# Altium schematic symbol library cSLIM-SA.SchLib: 53 symbols
Pins are listed as number, name and electrical type; pins without a type are passive.

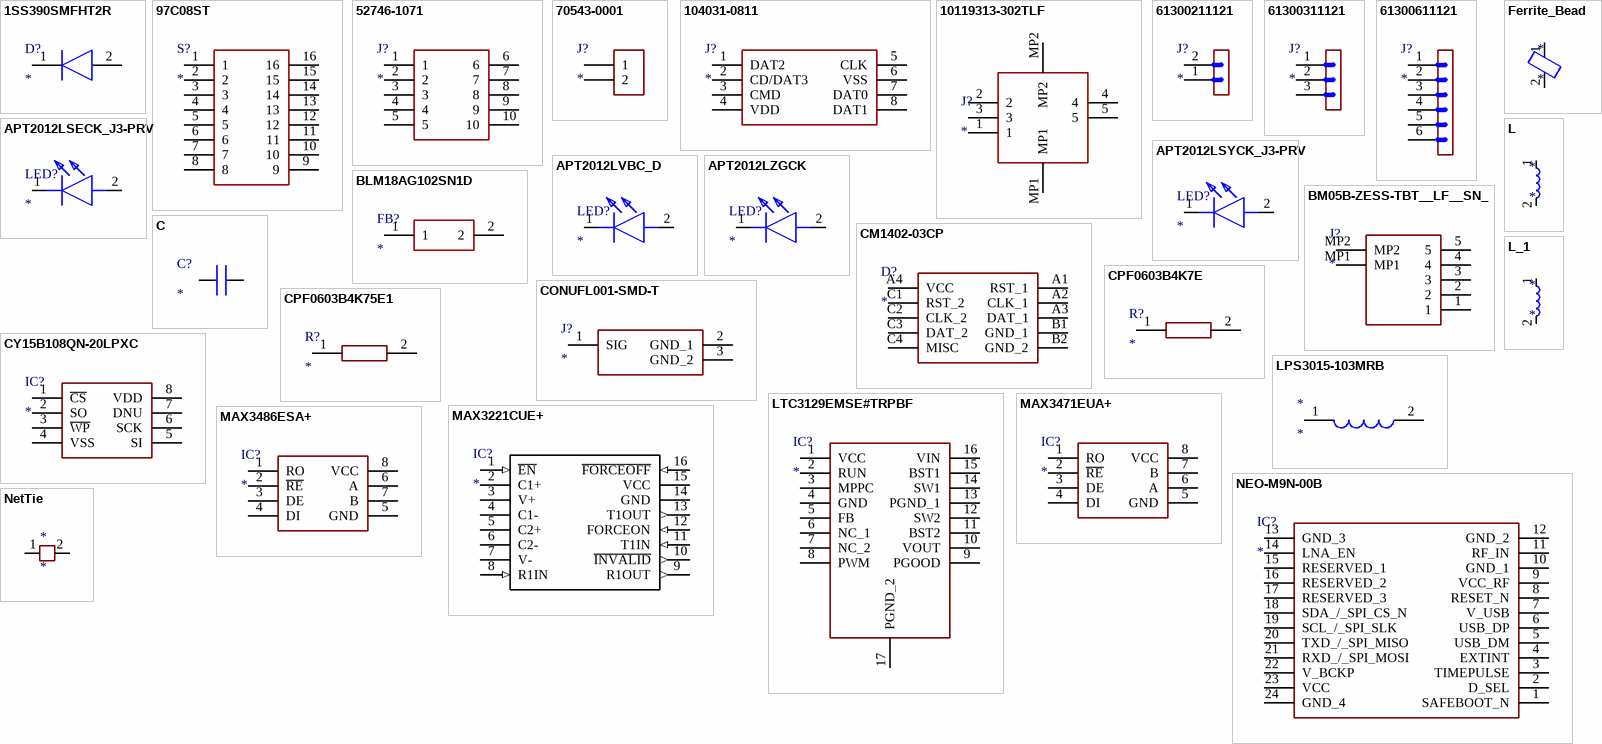
[diagram p0: symbols 1SS390SMFHT2R to NetTie]

## 1SS390SMFHT2R
designator D?
Diode; Manufacturer_Name: ROHM Semiconductor; Manufacturer_Part_Number: 1SS390SMFHT2R; Datasheet Link: https://componentsearchengine.com/Datasheets/2/1SS390SMFHT2R.pdf; Height: 0.7mm; Mouser Part Number: 755-1SS390SMFHT2R; Mouser Price/Stock: https://www.mouser.co.uk/ProductDetail/ROHM-Semiconductor/1SS390SMFHT2R?qs=0lSvoLzn4L%2FO2HkvK5CJsQ%3D%3D
footprint SODFL1608X70N
pins: 1 K, 2 A

## 97C08ST
designator S?
Switch; Manufacturer_Name: Grayhill; Manufacturer_Part_Number: 97C08ST; Datasheet Link: http://www.grayhill.com/search/?Keywords=97C08ST; Height: 1.7mm; Mouser Part Number: 706-97C08ST; Mouser Price/Stock: https://www.mouser.co.uk/ProductDetail/Grayhill/97C08ST?qs=ls7QRyWmRk6QAl4Hs3wGtw%3D%3D; Arrow Part Number: 97C08ST; Arrow Price/Stock: https://www.arrow.com/en/products/97c08st/grayhill
footprint SOIC127P671X170-16N
pins: 1, 2, 3, 4, 5, 6, 7, 8, 9, 10, 11, 12, 13, 14, 15, 16

## 52746-1071
designator J?
Connector; Manufacturer_Name: Molex; Manufacturer_Part_Number: 52746-1071; Datasheet Link: http://www.molex.com/pdm_docs/sd/527461071_sd.pdf; Mouser Part Number: 538-52746-1071; Mouser Price/Stock: https://www.mouser.co.uk/ProductDetail/Molex/52746-1071?qs=gi08C7HaimYPHJccIEZoxg%3D%3D
footprint 52746-1071
pins: 1, 2, 3, 4, 5, 6, 7, 8, 9, 10

## 70543-0001
designator J?
Connector; Manufacturer_Name: Molex; Manufacturer_Part_Number: 70543-0001; Datasheet Link: http://www.molex.com/pdm_docs/sd/705430001_sd.pdf; Height: 11.81mm; Mouser Part Number: 538-70543-0001; Mouser Price/Stock: https://www.mouser.co.uk/ProductDetail/Molex/70543-0001?qs=tYx%252BZc2nXqpCsE0XoulATg%3D%3D
footprint SHDR2W64P0X254_1X2_737X660X1181P
pins: 1, 2

## 104031-0811
designator J?
Connector; Manufacturer_Name: Molex; Manufacturer_Part_Number: 104031-0811; Datasheet Link: http://www.molex.com/webdocs/datasheets/pdf/en-us/1040310811_MEMORY_CARD_SOCKET.pdf; Mouser Part Number: 538-104031-0811; Mouser Price/Stock: https://www.mouser.co.uk/ProductDetail/Molex/104031-0811?qs=udsGRKD4nA3Tvy7wqky%252BuA%3D%3D
footprint 1040310811
pins: 1 DAT2, 2 CD/DAT3, 3 CMD, 4 VDD, 5 CLK, 6 VSS, 7 DAT0, 8 DAT1

## 10119313-302TLF
designator J?
Connector; Manufacturer_Name: Amphenol; Manufacturer_Part_Number: 10119313-302TLF; Datasheet Link: https://www.arrow.com/en/products/10119313-302tlf/amphenol-fci; Height: 9.55mm; Mouser Part Number: 649-10119313-302TLF; Mouser Price/Stock: https://www.mouser.co.uk/ProductDetail/Amphenol-FCI/10119313-302TLF?qs=QcFhgjUTvvpTzLjwlVEXAA%3D%3D; Arrow Part Number: 10119313-302TLF; Arrow Price/Stock: https://www.arrow.com/en/products/10119313-302tlf/amphenol-fci
footprint 10119313302TLF
pins: 1, 2, 3, 4, 5, MP1, MP2

## 61300211121
designator J?
Connector; Manufacturer_Name: Wurth Elektronik; Manufacturer_Part_Number: 61300211121; Datasheet Link: https://componentsearchengine.com/Datasheets/2/61300211121.pdf; Height: 8.54mm; Mouser Part Number: 710-61300211121; Mouser Price/Stock: https://www.mouser.co.uk/ProductDetail/Wurth-Elektronik/61300211121?qs=t4813l51qx%252B1A5GYDQxPlw%3D%3D
footprint HDRV2W110P0X254_1X2_508X254X854P
pins: 1, 2

## 61300311121
designator J?
Connector; Manufacturer_Name: Wurth Elektronik; Manufacturer_Part_Number: 61300311121; Datasheet Link: http://katalog.we-online.de/em/datasheet/6130xx11121.pdf; Height: 8.69mm; Mouser Part Number: 710-61300311121; Mouser Price/Stock: https://www.mouser.co.uk/ProductDetail/Wurth-Elektronik/61300311121?qs=PhR8RmCirEYxRWFJzNKsUw%3D%3D
footprint HDRV3W64P0X254_1X3_762X254X869P
pins: 1, 2, 3

## 61300611121
designator J?
Connector; Manufacturer_Name: Wurth Elektronik; Manufacturer_Part_Number: 61300611121; Datasheet Link: https://componentsearchengine.com/Datasheets/2/61300611121.pdf; Height: 8.69mm; Mouser Part Number: 710-61300611121; Mouser Price/Stock: https://www.mouser.co.uk/ProductDetail/Wurth-Elektronik/61300611121?qs=t4813l51qx%2FRpdf0Kp1HlQ%3D%3D
footprint HDRV6W64P0X254_1X6_1524X254X869P
pins: 1, 2, 3, 4, 5, 6

## APT2012LSECK_J3-PRV
designator LED?
LED; Manufacturer_Name: Kingbright; Manufacturer_Part_Number: APT2012LSECK/J3-PRV; Datasheet Link: http://www.kingbrightusa.com/images/catalog/SPEC/APT2012LSECK-J3-PRV.pdf; Height: 0.75mm; Mouser Part Number: 604-APT2012LSECKJ3RV; Mouser Price/Stock: https://www.mouser.co.uk/ProductDetail/Kingbright/APT2012LSECK-J3-PRV?qs=6oMev5NRZMEkGJkKIsAalQ%3D%3D; Arrow Part Number: APT2012LSECK/J3-PRV; Arrow Price/Stock: https://www.arrow.com/en/products/apt2012lseckj3-prv/kingbright
footprint LEDC2012X75N
pins: 1 K, 2 A

## APT2012LSYCK_J3-PRV
designator LED?
LED; Manufacturer_Name: Kingbright; Manufacturer_Part_Number: APT2012LSYCK/J3-PRV; Datasheet Link: http://www.kingbrightusa.com/images/catalog/SPEC/APT2012LSYCK-J3-PRV.pdf; Height: 0.85mm; Mouser Part Number: 604-APT2012LSYCKJ3RV; Mouser Price/Stock: https://www.mouser.co.uk/ProductDetail/Kingbright/APT2012LSYCK-J3-PRV?qs=6oMev5NRZMGoWLCc4feqUg%3D%3D; Arrow Part Number: APT2012LSYCK/J3-PRV; Arrow Price/Stock: https://www.arrow.com/en/products/apt2012lsyckj3-prv/kingbright
footprint LEDC2012X85N
pins: 1 K, 2 A

## APT2012LVBC_D
designator LED?
LED; Manufacturer_Name: Kingbright; Manufacturer_Part_Number: APT2012LVBC/D; Datasheet Link: https://componentsearchengine.com/Datasheets/1/APT2012LVBC_D.pdf; Height: 0.85mm; Mouser Part Number: 604-APT2012LVBCD; Mouser Price/Stock: https://www.mouser.co.uk/ProductDetail/Kingbright/APT2012LVBC-D?qs=6oMev5NRZMGErJYT6KZLXg%3D%3D; Arrow Part Number: APT2012LVBC/D; Arrow Price/Stock: https://www.arrow.com/en/products/apt2012lvbcd/kingbright
footprint LEDC2012X85N
pins: 1 K, 2 A

## APT2012LZGCK
designator LED?
LED; Manufacturer_Name: Kingbright; Manufacturer_Part_Number: APT2012LZGCK; Datasheet Link: http://www.kingbrightusa.com/images/catalog/SPEC/APT2012LZGCK.pdf; Height: 0.85mm; Mouser Part Number: 604-APT2012LZGCK; Mouser Price/Stock: https://www.mouser.co.uk/ProductDetail/Kingbright/APT2012LZGCK?qs=6oMev5NRZMHOosFiXb%2F3qw%3D%3D; Arrow Part Number: APT2012LZGCK; Arrow Price/Stock: https://www.arrow.com/en/products/apt2012lzgck/kingbright
footprint LEDC2012X85N
pins: 1 K, 2 A

## BLM18AG102SN1D
designator FB?
Ferrite Bead; Manufacturer_Name: Murata Electronics; Manufacturer_Part_Number: BLM18AG102SN1D; Datasheet Link: http://www.murata.com/~/media/webrenewal/support/library/catalog/products/emc/emifil/c31e.ashx?la=en-gb; Height: 0.95mm; Mouser Part Number: 81-BLM11A102S; Mouser Price/Stock: https://www.mouser.co.uk/ProductDetail/Murata-Electronics/BLM18AG102SN1D?qs=b2kFoOhrN4V4XjRBmusv4w%3D%3D; Arrow Part Number: BLM18AG102SN1D; Arrow Price/Stock: https://www.arrow.com/en/products/blm18ag102sn1d/murata-manufacturing?region=nac
footprint BLM18EG121SH1D
pins: 1, 2

## BM05B-ZESS-TBT__LF__SN_
designator J?
Connector; Manufacturer_Name: JST (JAPAN SOLDERLESS TERMINALS); Manufacturer_Part_Number: BM05B-ZESS-TBT (LF)(SN); Datasheet Link: https://www.arrow.com/en/products/bm05b-zess-tbt-lf-sn/jst-manufacturing; Height: 7.5mm; Arrow Part Number: BM05B-ZESS-TBT (LF)(SN); Arrow Price/Stock: https://www.arrow.com/en/products/bm05b-zess-tbt-lf-sn/jst-manufacturing
footprint BM05BZESSTBTLFSN
pins: 1, 2, 3, 4, 5, MP1, MP2

## C
designator C?
Capacitor; Manufacturer_Name: AVX; Manufacturer_Part_Number: 06033G104ZAT2A; Datasheet Link: http://www.mouser.com/catalog/supplier/library/pdf/AVXSurfaceMountCeramic.pdf; Height: 0.9mm; Mouser Part Number: 581-06033G104Z; Mouser Price/Stock: https://www.mouser.co.uk/ProductDetail/AVX/06033G104ZAT2A?qs=NXubJDmysXJMPmHfVo6Z%252BA%3D%3D; Arrow Part Number: 06033G104ZAT2A; Arrow Price/Stock: https://www.arrow.com/en/products/06033g104zat2a/avx?region=nac
footprint CAPC1608X90N
pins: 1, 2

## CM1402-03CP
designator D?
Diode ESD (Uni-directional); Manufacturer_Name: ON Semiconductor; Manufacturer_Part_Number: CM1402-03CP; Datasheet Link: https://www.onsemi.com/pub/Collateral/CM1402-D.PDF; Height: 0.72mm; Mouser Part Number: 748-CM1402-03CP; Mouser Price/Stock: https://www.mouser.co.uk/ProductDetail/onsemi/CM1402-03CP?qs=lLuKAerq7nnG203YjtyI%252BA%3D%3D; Arrow Part Number: CM1402-03CP; Arrow Price/Stock: https://www.arrow.com/en/products/cm1402-03cp/on-semiconductor
footprint CM140203CP
pins: A1 RST_1, A2 CLK_1, A3 DAT_1, A4 VCC, B1 GND_1, B2 GND_2, C1 RST_2, C2 CLK_2, C3 DAT_2, C4 MISC

## CONUFL001-SMD-T
designator J?
Connector; Manufacturer_Name: Linx Technologies; Manufacturer_Part_Number: CONUFL001-SMD-T; Datasheet Link: https://linxtechnologies.com/wp/product/mhf-rf-connectors/; Mouser Part Number: 712-CONUFL001-SMD-T; Mouser Price/Stock: https://www.mouser.co.uk/ProductDetail/Linx-Technologies/CONUFL001-SMD-T?qs=EU6FO9ffTwfRdkBeQTdJWQ%3D%3D
footprint CONUFL001-SMD
pins: 1 SIG, 2 GND_1, 3 GND_2

## CPF0603B4K7E
designator R?
Resistor; Manufacturer_Name: TE Connectivity; Manufacturer_Part_Number: CPF0603B4K7E; Datasheet Link: http://www.farnell.com/datasheets/1786775.pdf; Height: 0.55mm; Mouser Part Number: 279-CPF0603B4K7E; Mouser Price/Stock: https://www.mouser.com/Search/Refine.aspx?Keyword=279-CPF0603B4K7E; Arrow Part Number: CPF0603B4K7E; Arrow Price/Stock: https://www.arrow.com/en/products/cpf0603b4k7e/te-connectivity
footprint RESC1608X55N
pins: 1, 2

## CPF0603B4K75E1
designator R?
Resistor; Manufacturer_Name: TE Connectivity; Manufacturer_Part_Number: CPF0603B4K75E1; Datasheet Link: http://www.farnell.com/datasheets/1786775.pdf; Height: 0.55mm
footprint RESC1608X55N
pins: 1, 2

## CY15B108QN-20LPXC
designator IC?
Integrated Circuit; Manufacturer_Name: Cypress Semiconductor; Manufacturer_Part_Number: CY15B108QN-20LPXC; Datasheet Link: https://www.arrow.com/en/products/cy15b108qn-20lpxc/cypress-semiconductor; Height: 0.55mm; Mouser Part Number: 727-CY15B108QN20LPXC; Mouser Price/Stock: https://www.mouser.co.uk/ProductDetail/Cypress-Semiconductor/CY15B108QN-20LPXC?qs=P1JMDcb91o5srFPNWUxrEA%3D%3D; Arrow Part Number: CY15B108QN-20LPXC; Arrow Price/Stock: https://www.arrow.com/en/products/cy15b108qn-20lpxc/cypress-semiconductor?region=nac
footprint SON65P323X328X55-8N
pins: 1 ~{CS}, 2 SO, 3 ~{WP}, 4 VSS, 5 SI, 6 SCK, 7 DNU, 8 VDD

## Ferrite_Bead
designator *
footprint CAPC1608X90N
pins: 1, 2

## L
designator *
footprint L-1608
pins: 1, 2

## L_1
designator *
footprint LQW18AS10NG0CD
pins: 1, 2

## LPS3015-103MRB
designator *
footprint LPS3015
pins: 1, 2

## LTC3129EMSE#TRPBF
designator IC?
Integrated Circuit; Manufacturer_Name: Linear Technology; Manufacturer_Part_Number: LTC3129EMSE#TRPBF; Datasheet Link: https://www.analog.com/media/en/technical-documentation/data-sheets/3129fc.pdf; Height: 1.1mm; Mouser Part Number: 584-LTC3129EMSETRPBF; Mouser Price/Stock: https://www.mouser.com/Search/Refine.aspx?Keyword=584-LTC3129EMSETRPBF
footprint SOP50P490X110-17N
pins: 1 VCC, 2 RUN, 3 MPPC, 4 GND, 5 FB, 6 NC_1, 7 NC_2, 8 PWM, 9 PGOOD, 10 VOUT, 11 BST2, 12 SW2, 13 PGND_1, 14 SW1, 15 BST1, 16 VIN, 17 PGND_2

## MAX3221CUE+
designator IC?
Integrated Circuit; Manufacturer_Name: Maxim Integrated; Manufacturer_Part_Number: MAX3221CUE+; Datasheet Link: http://datasheets.maximintegrated.com/en/ds/MAX3221-MAX3243.pdf; Height: 1.1mm; Mouser Part Number: 700-MAX3221CUE; Mouser Price/Stock: https://www.mouser.co.uk/ProductDetail/Maxim-Integrated/MAX3221CUE%2b?qs=1THa7WoU59EZwCeWs5OtSQ%3D%3D
footprint SOP65P640X110-16N
pins: 1 ~{EN} (in), 2 C1+, 3 V+ (power), 4 C1-, 5 C2+, 6 C2-, 7 V- (power), 8 R1IN (in), 9 R1OUT (out), 10 ~{INVALID} (out), 11 T1IN (in), 12 FORCEON (in), 13 T1OUT (out), 14 GND (power), 15 VCC (power), 16 ~{FORCEOFF} (in)

## MAX3471EUA+
designator IC?
Integrated Circuit; Manufacturer_Name: Maxim Integrated; Manufacturer_Part_Number: MAX3471EUA+; Datasheet Link: http://docs-emea.rs-online.com/webdocs/0f71/0900766b80f719c9.pdf; Height: 1.1mm; Mouser Part Number: 700-MAX3471EUA; Mouser Price/Stock: https://www.mouser.co.uk/ProductDetail/Maxim-Integrated/MAX3471EUA%2b?qs=1THa7WoU59GPWTW%252BBV1kJA%3D%3D
footprint SOP65P490X110-8N
pins: 1 RO, 2 ~{RE}, 3 DE, 4 DI, 5 GND, 6 A, 7 B, 8 VCC

## MAX3486ESA+
designator IC?
Integrated Circuit; Manufacturer_Name: Maxim Integrated; Manufacturer_Part_Number: MAX3486ESA+; Datasheet Link: http://datasheets.maximintegrated.com/en/ds/MAX3483-MAX3491.pdf; Height: 1.75mm; Mouser Part Number: 700-MAX3486ESA; Mouser Price/Stock: https://www.mouser.co.uk/ProductDetail/Maxim-Integrated/MAX3486ESA%2b?qs=1THa7WoU59FIrgcgBLF9fg%3D%3D
footprint SOIC127P600X175-8N
pins: 1 RO, 2 ~{RE}, 3 DE, 4 DI, 5 GND, 6 A, 7 B, 8 VCC

## NEO-M9N-00B
designator IC?
Integrated Circuit; Manufacturer_Name: U-Blox; Manufacturer_Part_Number: NEO-M9N-00B; Datasheet Link: https://www.u-blox.com/sites/default/files/NEO-M9N_DataSheet_%28UBX-19014285%29.pdf; Height: 2.6mm; Mouser Part Number: 377-NEO-M9N-00B; Mouser Price/Stock: https://www.mouser.co.uk/ProductDetail/u-blox/NEO-M9N-00B?qs=DPoM0jnrROVeJ6BHpcwcjw%3D%3D
footprint NEOM9N00B (NEO M9N GNSS)
pins: 1 SAFEBOOT_N, 2 D_SEL, 3 TIMEPULSE, 4 EXTINT, 5 USB_DM, 6 USB_DP, 7 V_USB, 8 RESET_N, 9 VCC_RF, 10 GND_1, 11 RF_IN, 12 GND_2, 13 GND_3, 14 LNA_EN, 15 RESERVED_1, 16 RESERVED_2, 17 RESERVED_3, 18 SDA_/_SPI_CS_N, 19 SCL_/_SPI_SLK, 20 TXD_/_SPI_MISO, 21 RXD_/_SPI_MOSI, 22 V_BCKP, 23 VCC, 24 GND_4

## NetTie
designator *
footprint NETTIE_FP
pins: 1, 2

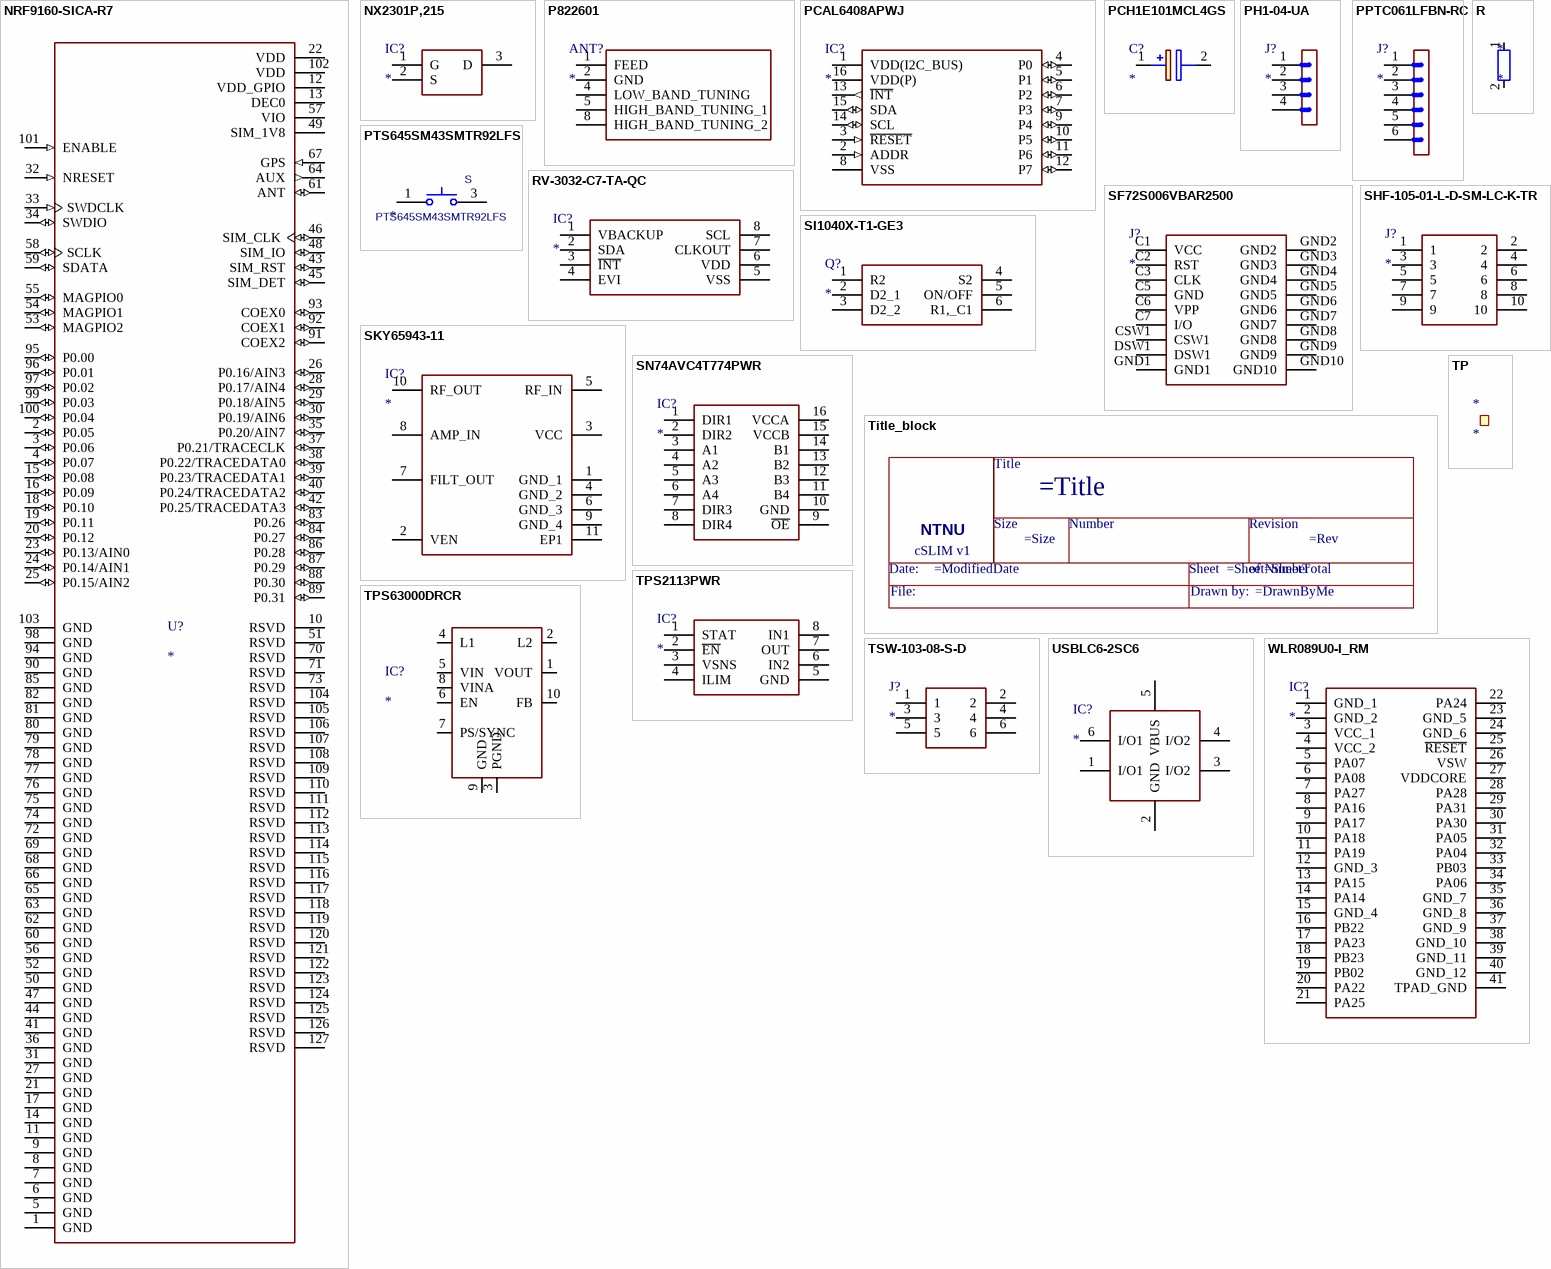
[diagram p1: symbols NRF9160-SICA-R7 to WLR089U0-I_RM]

## NRF9160-SICA-R7
designator U?
IC RF TxRx + MCU Cellular GPS 700MHz ~ 2.2GHz 161-TFLGA Module; MF: Nordic Semiconductor ASA; MP: NRF9160-SICA-R7; Purchase-URL: https://pricing.snapeda.com/search/part/NRF9160-SICA-R7/?ref=eda; Availability: Good; Price: None; Package: Module Nordic Semiconductor ASA; Value: *; SnapEDA_Link: https://www.snapeda.com/parts/NRF9160-SICA-R7/Nordic%20Semiconductor%20ASA/view-part/3660917/?ref=snap
footprint XCVR_NRF9160-SICA-R7
pins: 1 GND (power), 2 P0.05 (io), 3 P0.06 (io), 4 P0.07 (io), 5 GND (power), 6 GND, 7 GND, 8 GND, 9 GND (power), 10 RSVD, 11 GND, 12 VDD_GPIO (power), 13 DEC0 (power), 14 GND (power), 15 P0.08 (io), 16 P0.09 (io), 17 GND (power), 18 P0.10 (io), 19 P0.11 (io), 20 P0.12 (io), 21 GND (power), 22 VDD (power), 23 P0.13/AIN0 (io), 24 P0.14/AIN1 (io), 25 P0.15/AIN2 (io), 26 P0.16/AIN3 (io), 27 GND (power), 28 P0.17/AIN4 (io), 29 P0.18/AIN5 (io), 30 P0.19/AIN6 (io), 31 GND (power), 32 NRESET (in), 33 SWDCLK (in), 34 SWDIO (io), 35 P0.20/AIN7 (io), 36 GND (power), 37 P0.21/TRACECLK (io), 38 P0.22/TRACEDATA0 (io), 39 P0.23/TRACEDATA1 (io), 40 P0.24/TRACEDATA2 (io), 41 GND (power), 42 P0.25/TRACEDATA3 (io), 43 SIM_RST (io), 44 GND (power), 45 SIM_DET (io), 46 SIM_CLK (io), 47 GND (power), 48 SIM_IO (io), 49 SIM_1V8 (power), 50 GND (power), 51 RSVD, 52 GND (power), 53 MAGPIO2 (io), 54 MAGPIO1 (io), 55 MAGPIO0 (io), 56 GND (power), 57 VIO (power), 58 SCLK (io), 59 SDATA (io), 60 GND (power), 61 ANT (io), 62 GND (power), 63 GND (power), 64 AUX (out), 65 GND (power), 66 GND (power), 67 GPS (in), 68 GND, 69 GND, 70 RSVD, 71 RSVD, 72 GND (power), 73 RSVD, 74 GND (power), 75 GND (power), 76 GND (power), 77 GND (power), 78 GND (power), 79 GND (power), 80 GND (power), 81 GND (power), 82 GND (power), 83 P0.26 (io), 84 P0.27 (io), 85 GND (power), 86 P0.28 (io), 87 P0.29 (io), 88 P0.30 (io), 89 P0.31 (io), 90 GND (power), 91 COEX2 (io), 92 COEX1 (io), 93 COEX0 (io), 94 GND (power), 95 P0.00 (io), 96 P0.01 (io), 97 P0.02 (io), 98 GND (power), 99 P0.03 (io), 100 P0.04 (io), 101 ENABLE (in), 102 VDD (power), 103 GND (power), 104 RSVD, 105 RSVD, 106 RSVD, 107 RSVD, 108 RSVD, 109 RSVD, 110 RSVD, 111 RSVD, 112 RSVD, 113 RSVD, 114 RSVD, 115 RSVD, 116 RSVD, 117 RSVD, 118 RSVD, 119 RSVD, 120 RSVD, 121 RSVD, 122 RSVD, 123 RSVD, 124 RSVD, 125 RSVD, 126 RSVD, 127 RSVD

## NX2301P,215
designator IC?
Integrated Circuit; Manufacturer_Name: Nexperia; Manufacturer_Part_Number: NX2301P,215; Datasheet Link: http://www.nxp.com/documents/data_sheet/NX2301P.pdf; Height: 1.1mm; Mouser Part Number: 771-NX2301P215; Mouser Price/Stock: https://www.mouser.co.uk/ProductDetail/Nexperia/NX2301P215?qs=A1cBxND5mHKs%252BLrxCDENxw%3D%3D; Arrow Part Number: NX2301P,215; Arrow Price/Stock: https://www.arrow.com/en/products/nx2301p215/nexperia
footprint SOT95P230X110-3N
pins: 1 G, 2 S, 3 D

## P822601
designator ANT?
Antenna; Manufacturer_Name: AVX; Manufacturer_Part_Number: P822601; Datasheet Link: http://datasheets.avx.com/ethertronics/AVX-E_P822601-P822602.pdf; Height: 3.5mm; Mouser Part Number: 581-P822601; Mouser Price/Stock: https://www.mouser.co.uk/ProductDetail/AVX/P822601?qs=vdi0iO8H4N0igrTLYxGIXg%3D%3D; Arrow Part Number: P822601; Arrow Price/Stock: https://www.arrow.com/en/products/p822601/avx?region=nac
footprint P822601
pins: 1 FEED, 2 GND, 4 LOW_BAND_TUNING, 5 HIGH_BAND_TUNING_1, 8 HIGH_BAND_TUNING_2

## PCAL6408APWJ
designator IC?
Integrated Circuit; Manufacturer_Name: NXP; Manufacturer_Part_Number: PCAL6408APWJ; Datasheet Link: http://www.nxp.com/docs/en/data-sheet/PCAL6408A.pdf; Height: 1.1mm; Mouser Part Number: 771-PCAL6408APWJ; Mouser Price/Stock: https://www.mouser.co.uk/ProductDetail/NXP-Semiconductors/PCAL6408APWJ?qs=1sbE9T7hb3ayrs2xEWMTlg%3D%3D; Arrow Part Number: PCAL6408APWJ; Arrow Price/Stock: https://www.arrow.com/en/products/pcal6408apwj/nxp-semiconductors
footprint SOP65P640X110-16N
pins: 1 VDD(I2C_BUS) (power), 2 ADDR (in), 3 ~{RESET} (in), 4 P0 (io), 5 P1 (io), 6 P2 (io), 7 P3 (io), 8 VSS (power), 9 P4 (io), 10 P5 (io), 11 P6 (io), 12 P7 (io), 13 ~{INT} (out), 14 SCL (io), 15 SDA (io), 16 VDD(P) (power)

## PCH1E101MCL4GS
designator C?
Capacitor Polarised; Manufacturer_Name: Nichicon; Manufacturer_Part_Number: PCH1E101MCL4GS; Datasheet Link: https://componentsearchengine.com/Datasheets/2/PCH1E101MCL4GS.pdf; Height: 8.4mm; Mouser Part Number: 647-PCH1E101MCL4GS; Mouser Price/Stock: https://www.mouser.co.uk/ProductDetail/Nichicon/PCH1E101MCL4GS?qs=vmHwEFxEFR%252Bar6ugXaASOA%3D%3D
footprint CAPAE660X840N
pins: 1 +, 2 -

## PH1-04-UA
designator J?
Connector; Manufacturer_Name: Adam Tech; Manufacturer_Part_Number: PH1-04-UA; Datasheet Link: https://datasheet.datasheetarchive.com/originals/distributors/Datasheets_SAMA/22522227e000bb8d8f26a3580c1bb98b.pdf; Height: 9.008mm; Arrow Part Number: PH1-04-UA; Arrow Price/Stock: https://www.arrow.com/en/products/ph1-04-ua/adam-tech
footprint HDRV4W64P0X254_1X4_1016X250X901P
pins: 1, 2, 3, 4

## PPTC061LFBN-RC
designator J?
Connector; Manufacturer_Name: Sullins; Manufacturer_Part_Number: PPTC061LFBN-RC; Datasheet Link: http://www.sullinscorp.com/drawings/78_P(N)PxCxxxLFBN-RC,_10492-H.pdf; Height: 8.7mm
footprint RHDR6W80P0X254_1X6_1574X254X870P
pins: 1, 2, 3, 4, 5, 6

## PTS645SM43SMTR92LFS
designator S  value PTS645SM43SMTR92LFS
Switch 4-pi. used 1-3 (2-4 not in use); Manufacturer_Name: C & K COMPONENTS; Manufacturer_Part_Number: TLS A 070J LFS; Description_: Tactile Switches Top actuated tact, 0.9 mm travel, 7 N, 50% Tactile, J Leads, SMT, 8.6 x 8.4 x 3.95 mm, Soft Actuator; Footprint: TLSA070JLFS; Supplier: https://www.mouser.ph/datasheet/2/60/tls-1846606.pdf; Mouser Part Number: 611-TLSA070JLFS; Mouser Price/Stock: https://www.mouser.co.uk/ProductDetail/CK/TLS-A-070J-LFS?qs=GedFDFLaBXEdAqJ422mDcw%3D%3D
footprint PTS645(SMT)
pins: 1, 3

## R
designator *
footprint RESC1608X55N
pins: 1, 2

## RV-3032-C7-TA-QC
designator IC?
Integrated Circuit; Manufacturer_Name: Micro Crystal AG; Manufacturer_Part_Number: RV-3032-C7-TA-QC; Datasheet Link: https://www.microcrystal.com/fileadmin/Media/Products/RTC/Datasheet/RV-3032-C7.pdf; Height: 0.8mm
footprint RV3032C7TAQA
pins: 1 VBACKUP, 2 SDA, 3 ~{INT}, 4 EVI, 5 VSS, 6 VDD, 7 CLKOUT, 8 SCL

## SF72S006VBAR2500
designator J?
Connector; Manufacturer_Name: JAE Electronics; Manufacturer_Part_Number: SF72S006VBAR2500; Datasheet Link: https://componentsearchengine.com/Datasheets/1/SF72S006VBAR2500.pdf; Height: 1.25mm; Mouser Part Number: 656-SF72S006VBAR2500; Mouser Price/Stock: https://www.mouser.co.uk/ProductDetail/JAE-Electronics/SF72S006VBAR2500?qs=zwT864VV%2FINpxlkc4yTPCw%3D%3D
footprint SF72S006VBAR2500
pins: C1 VCC, C2 RST, C3 CLK, C5 GND, C6 VPP, C7 I/O, CSW1, DSW1, GND1, GND2, GND3, GND4, GND5, GND6, GND7, GND8, GND9, GND10

## SHF-105-01-L-D-SM-LC-K-TR
designator J?
Connector; Manufacturer_Name: Samtech; Manufacturer_Part_Number: SHF-105-01-L-D-SM-LC-K-TR; Datasheet Link: https://suddendocs.samtec.com/prints/shf-1xx-01-x-d-xx-xx-xx-mkt.pdf; Height: 5.33mm
footprint SHF10501LDSMLCKTR
pins: 1, 2, 3, 4, 5, 6, 7, 8, 9, 10

## SI1040X-T1-GE3
designator Q?
MOSFET (N-Channel); Manufacturer_Name: Vishay; Manufacturer_Part_Number: SI1040X-T1-GE3; Datasheet Link: https://www.vishay.com/docs/71809/si1040x.pdf; Height: 0.6mm; Mouser Part Number: 781-SI1040X-T1-GE3; Mouser Price/Stock: https://www.mouser.co.uk/ProductDetail/Vishay-Semiconductors/SI1040X-T1-GE3?qs=tWM4QuTcS4WRJw%2FdSgdX6Q%3D%3D; Arrow Part Number: SI1040X-T1-GE3; Arrow Price/Stock: https://www.arrow.com/en/products/si1040x-t1-ge3/vishay
footprint SOTFL50P160X60-6N
pins: 1 R2, 2 D2_1, 3 D2_2, 4 S2, 5 ON/OFF, 6 R1,_C1

## SKY65943-11
designator IC?
Integrated Circuit; Manufacturer_Name: Skyworks; Manufacturer_Part_Number: SKY65943-11; Datasheet Link: https://datasheet.datasheetarchive.com/originals/distributors/DKDS41/DSANUWW0028396.pdf; Height: 0.7mm; Mouser Part Number: 873-SKY65943-11; Mouser Price/Stock: https://www.mouser.co.uk/ProductDetail/Skyworks-Solutions-Inc/SKY65943-11?qs=w%2Fv1CP2dgqpnHmrnB1Mkow%3D%3D
footprint SKY6594311
pins: 1 GND_1, 2 VEN, 3 VCC, 4 GND_2, 5 RF_IN, 6 GND_3, 7 FILT_OUT, 8 AMP_IN, 9 GND_4, 10 RF_OUT, 11 EP1

## SN74AVC4T774PWR
designator IC?
Integrated Circuit; Manufacturer_Name: Texas Instruments; Manufacturer_Part_Number: SN74AVC4T774PWR; Datasheet Link: http://www.ti.com/lit/gpn/sn74avc4t774; Height: 1.2mm; Mouser Part Number: 595-SN74AVC4T774PWR; Mouser Price/Stock: https://www.mouser.co.uk/ProductDetail/Texas-Instruments/SN74AVC4T774PWR?qs=WxL8HmPi5r562Eu%2F2kE2LA%3D%3D; Arrow Part Number: SN74AVC4T774PWR; Arrow Price/Stock: https://www.arrow.com/en/products/sn74avc4t774pwr/texas-instruments?region=nac
footprint SOP65P640X120-16N
pins: 1 DIR1, 2 DIR2, 3 A1, 4 A2, 5 A3, 6 A4, 7 DIR3, 8 DIR4, 9 ~{OE}, 10 GND, 11 B4, 12 B3, 13 B2, 14 B1, 15 VCCB, 16 VCCA

## Title_block
designator =DocumentName  (value not drawn)  (no BOM)
text: Title; Size; Number; Revision; NTNU; cSLIM v1; Date:; Sheet; of; File:; Drawn by:

## TP
designator *
footprint TP_SMD_Ø1.0mm (TestPad Ø1mm)
pins: 1

## TPS2113PWR
designator IC?
Integrated Circuit; Manufacturer_Name: Texas Instruments; Manufacturer_Part_Number: TPS2113PWR; Datasheet Link: http://www.ti.com/lit/ds/symlink/tps2113.pdf; Height: 1.2mm; Mouser Part Number: 595-TPS2113PWR; Mouser Price/Stock: https://www.mouser.co.uk/ProductDetail/Texas-Instruments/TPS2113PWR?qs=ojKcPFmCWSUJzuMPtPVtlA%3D%3D; Arrow Part Number: TPS2113PWR; Arrow Price/Stock: https://www.arrow.com/en/products/tps2113pwr/texas-instruments
footprint SOP65P640X120-8N
pins: 1 STAT, 2 ~{EN}, 3 VSNS, 4 ILIM, 5 GND, 6 IN2, 7 OUT, 8 IN1

## TPS63000DRCR
designator IC?
Integrated Circuit; Manufacturer_Name: Texas Instruments; Manufacturer_Part_Number: TPS63000DRCR; Datasheet Link: https://www.ti.com/lit/ds/symlink/tps63000.pdf?HQS=ti-null-null-sf-df-pf-sep-wwe&ts=1593405994673; Height: 1mm; Mouser Part Number: 595-TPS63000DRCR; Mouser Price/Stock: https://www.mouser.co.uk/ProductDetail/Texas-Instruments/TPS63000DRCR?qs=QZuYiDxzHaj%2FxB6t44u%252B6Q%3D%3D; Arrow Part Number: TPS63000DRCR; Arrow Price/Stock: https://www.arrow.com/en/products/tps63000drcr/texas-instruments?region=nac
footprint TPS63002DRCR
pins: 1 VOUT, 2 L2, 3 PGND, 4 L1, 5 VIN, 6 EN, 7 PS/SYNC, 8 VINA, 9 GND, 10 FB

## TSW-103-08-S-D
designator J?
Connector; Manufacturer_Name: SAMTEC; Manufacturer_Part_Number: TSW-103-08-S-D; Datasheet Link: http://suddendocs.samtec.com/catalog_english/tsw_th.pdf; Height: 8.38mm; Mouser Part Number: 200-TSW10308SD; Mouser Price/Stock: https://www.mouser.co.uk/ProductDetail/Samtec/TSW-103-08-S-D?qs=rU5fayqh%252BE0V5%2FEE8QdeZQ%3D%3D; Arrow Part Number: TSW-103-08-S-D; Arrow Price/Stock: https://www.arrow.com/en/products/tsw-103-08-s-d/samtec
footprint HDRV6W64P254_2X3_762X495X838P
pins: 1, 2, 3, 4, 5, 6

## USBLC6-2SC6
designator IC?
Integrated Circuit; Manufacturer_Name: STMicroelectronics; Manufacturer_Part_Number: USBLC6-2SC6; Datasheet Link: http://www.st.com/st-web-ui/static/active/en/resource/technical/document/datasheet/CD00050750.pdf; Height: 1.45mm; Mouser Part Number: 511-USBLC6-2SC6; Mouser Price/Stock: https://www.mouser.co.uk/ProductDetail/STMicroelectronics/USBLC6-2SC6?qs=po45yt2pPpu%2FhNIlwQdTlg%3D%3D; Arrow Part Number: USBLC6-2SC6; Arrow Price/Stock: https://www.arrow.com/en/products/usblc6-2sc6/stmicroelectronics?region=nac
footprint SOT95P280X145-6N
pins: 1 I/O1, 2 GND, 3 I/O2, 4 I/O2, 5 VBUS, 6 I/O1

## WLR089U0-I_RM
designator IC?
Integrated Circuit; Manufacturer_Name: Microchip; Manufacturer_Part_Number: WLR089U0-I/RM; Datasheet Link: https://ww1.microchip.com/downloads/en/DeviceDoc/WLR089U0-Low-Power-LoRa-Sub-GHz-Module-Data-Sheet-DS70005435A.pdf; Height: 2.8mm; Mouser Part Number: 579-WLR089U0-I/RM; Mouser Price/Stock: https://www.mouser.co.uk/ProductDetail/Microchip-Technology/WLR089U0-I-RM?qs=W%2FMpXkg%252BdQ4sfSMsQUYuNg%3D%3D; Arrow Part Number: WLR089U0-I/RM; Arrow Price/Stock: https://www.arrow.com/en/products/wlr089u0-irm/microchip-technology
footprint WLR089U0IRM
pins: 1 GND_1, 2 GND_2, 3 VCC_1, 4 VCC_2, 5 PA07, 6 PA08, 7 PA27, 8 PA16, 9 PA17, 10 PA18, 11 PA19, 12 GND_3, 13 PA15, 14 PA14, 15 GND_4, 16 PB22, 17 PA23, 18 PB23, 19 PB02, 20 PA22, 21 PA25, 22 PA24, 23 GND_5, 24 GND_6, 25 ~{RESET}, 26 VSW, 27 VDDCORE, 28 PA28, 29 PA31, 30 PA30, 31 PA05, 32 PA04, 33 PB03, 34 PA06, 35 GND_7, 36 GND_8, 37 GND_9, 38 GND_10, 39 GND_11, 40 GND_12, 41 TPAD_GND